# Altium schematic symbol library yldziotlib-Integrated Circuits (ICs) - Data Acquisition - Analog to Digital Converters (ADC).SchLib: 2 symbols
Pins are listed as number, name and electrical type; pins without a type are passive.

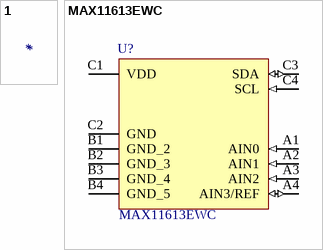
[diagram p0: symbols 1 to MAX11613EWC]

## 1
designator *
Suplier: Digikey; Stock Code: *; Footprint: *; Satın Alma Linki: *; Datasheet: *; Man PN: *; Sup PN: *; Manufacturer: *; Value: *

## MAX11613EWC
designator U?
Low-Power, 4-/8-/12-Channel, I2C, 12-Bit ADCs in Ultra-Small Packages; Birim Fiyat: 3,32; MN: Maxim Integrated; Stock Code: *; Footprint: WLP12; Supplier Link: https://www.digikey.com/product-detail/en/maxim-integrated/MAX11613EWC-T/MAX11613EWC-TTR-ND/2748582; Supplier: Digikey; Datasheet: https://datasheets.maximintegrated.com/en/ds/MAX11612-MAX11617.pdf; MP: MAX11613EWC; Supplier PN: MAX11613EWC+TCT-ND; Value: MAX11613EWC
footprint wlp-12
pins: A1 AIN0 (in), A2 AIN1 (in), A3 AIN2 (in), A4 AIN3/REF (io), B1 GND_2 (power), B2 GND_3 (power), B3 GND_4 (power), B4 GND_5 (power), C1 VDD (power), C2 GND (power), C3 SDA (io), C4 SCL (in)